# Altium footprint library TYPE-C-31-M-12.PcbLib: 1 footprints
Each footprint in its own frame and in the unit in brackets; x right, y up, seen from the top. Pads: shape width x height; smd on the part's side, far side on the other; paste and mask are expansions set on the pad; w line width, h text height; cw(c..) or ccw(c..) is an arc to the next point about the centre after c.
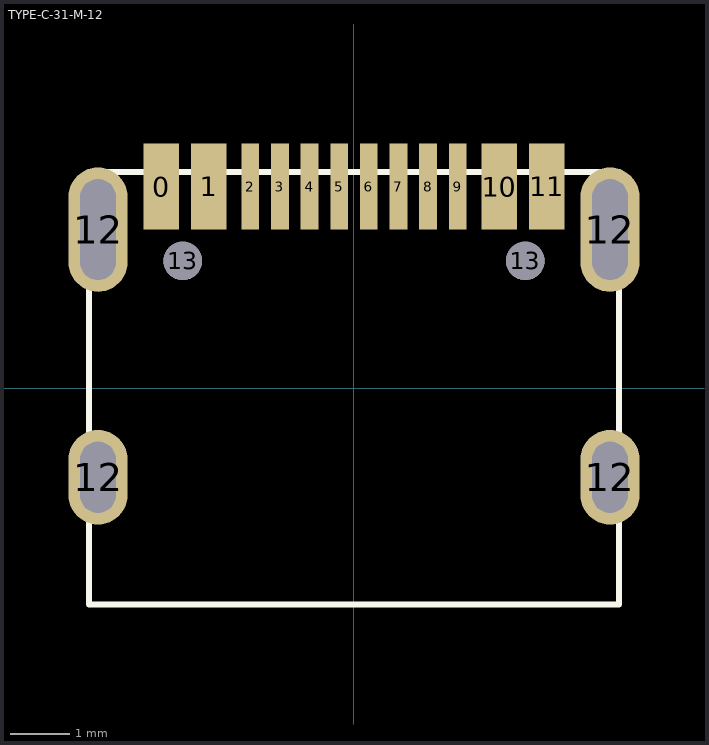
[diagram p0: the footprint, top view; thin cyan lines are the x and y axes]

## TYPE-C-31-M-12 [mm]
pads (18):
  rect 0.6x1.45 smd paste+0 mask+0.075: 0(-3.25,3.4)
  rect 0.6x1.45 smd mask+0.075: 1(-2.45,3.4) 10(2.45,3.4) 11(3.25,3.4)
  rect 0.3x1.45 smd mask+0.075: 2(-1.75,3.4) 3(-1.25,3.4) 4(-0.75,3.4) 5(-0.25,3.4) 6(0.25,3.4) 7(0.75,3.4) 8(1.25,3.4) 9(1.75,3.4)
  oval 1x1.6 hole 1.2 slot 0.6 at 0 deg mask+0.075: 12(-4.32,-1.505) 12(4.32,-1.505)
  oval 1x2.1 hole 1.7 slot 0.6 at 0 deg mask+0.075: 12(-4.32,2.675) 12(4.32,2.675)
  round 0.65 hole 0.65 mask+0: 13(-2.89,2.145) 13(2.89,2.145)
Top Overlay:
  lines w0.1: -4.47,-3.65 4.47,-3.65 4.47,3.65 -4.47,3.65 -4.47,-3.65